# Altium schematic symbol library SIM7600E.SchLib: 1 symbol
Pins are listed as number, name and electrical type; pins without a type are passive.

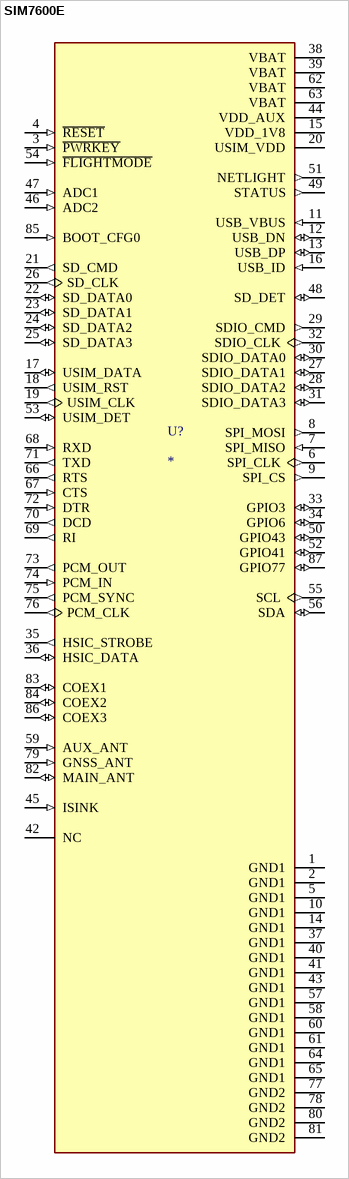
[diagram p0: symbol SIM7600E]

## SIM7600E
designator U?
LTE-FDD/LTE-TDD/HSPA+/UMTS/EDGE/GPRS/GSM Module On Module 10Mbps 800MHz/850MHz/900MHz/1800MHz/2100MHz/2300MHz/2500MHz/2600MHz 3.4V to 4.2V 24dBm; MF: SIMCom Wireless Solutions Limited; MP: SIM7600E; SnapEDA_Link: https://www.snapeda.com/parts/SIM7600E/SIMCom/view-part/?ref=snap; Package: SMD-87 SIMCom; Value: *; Check_prices: https://www.snapeda.com/parts/SIM7600E/SIMCom/view-part/?ref=eda
footprint XCVR_SIM7600E
pins: 1 GND1 (power), 2 GND1 (power), 3 ~{PWRKEY} (in), 4 ~{RESET} (in), 5 GND1 (power), 6 SPI_CLK (out), 7 SPI_MISO (in), 8 SPI_MOSI (out), 9 SPI_CS (out), 10 GND1 (power), 11 USB_VBUS (in), 12 USB_DN (io), 13 USB_DP (io), 14 GND1 (power), 15 VDD_1V8 (power), 16 USB_ID (in), 17 USIM_DATA (io), 18 USIM_RST (out), 19 USIM_CLK (out), 20 USIM_VDD (power), 21 SD_CMD (out), 22 SD_DATA0 (io), 23 SD_DATA1 (io), 24 SD_DATA2 (io), 25 SD_DATA3 (io), 26 SD_CLK (out), 27 SDIO_DATA1 (io), 28 SDIO_DATA2 (io), 29 SDIO_CMD (out), 30 SDIO_DATA0 (io), 31 SDIO_DATA3 (io), 32 SDIO_CLK (out), 33 GPIO3 (io), 34 GPIO6 (io), 35 HSIC_STROBE (out), 36 HSIC_DATA (io), 37 GND1 (power), 38 VBAT (power), 39 VBAT (power), 40 GND1 (power), 41 GND1 (power), 42 NC, 43 GND1 (power), 44 VDD_AUX (power), 45 ISINK (in), 46 ADC2 (in), 47 ADC1 (in), 48 SD_DET (io), 49 STATUS (out), 50 GPIO43 (io), 51 NETLIGHT (out), 52 GPIO41 (io), 53 USIM_DET (io), 54 ~{FLIGHTMODE} (in), 55 SCL (out), 56 SDA (io), 57 GND1 (power), 58 GND1 (power), 59 AUX_ANT (in), 60 GND1 (power), 61 GND1 (power), 62 VBAT (power), 63 VBAT (power), 64 GND1 (power), 65 GND1 (power), 66 RTS (out), 67 CTS (in), 68 RXD (in), 69 RI (out), 70 DCD (out), 71 TXD (out), 72 DTR (in), 73 PCM_OUT (out), 74 PCM_IN (in), 75 PCM_SYNC (out), 76 PCM_CLK (out), 77 GND2 (power), 78 GND2 (power), 79 GNSS_ANT (in), 80 GND2 (power), 81 GND2 (power), 82 MAIN_ANT (io), 83 COEX1 (io), 84 COEX2 (io), 85 BOOT_CFG0 (in), 86 COEX3 (io), 87 GPIO77 (io)